# Altium schematic symbol library NAVIGATION.SCHLIB: 51 symbols
Pins are listed as number, name and electrical type; pins without a type are passive.

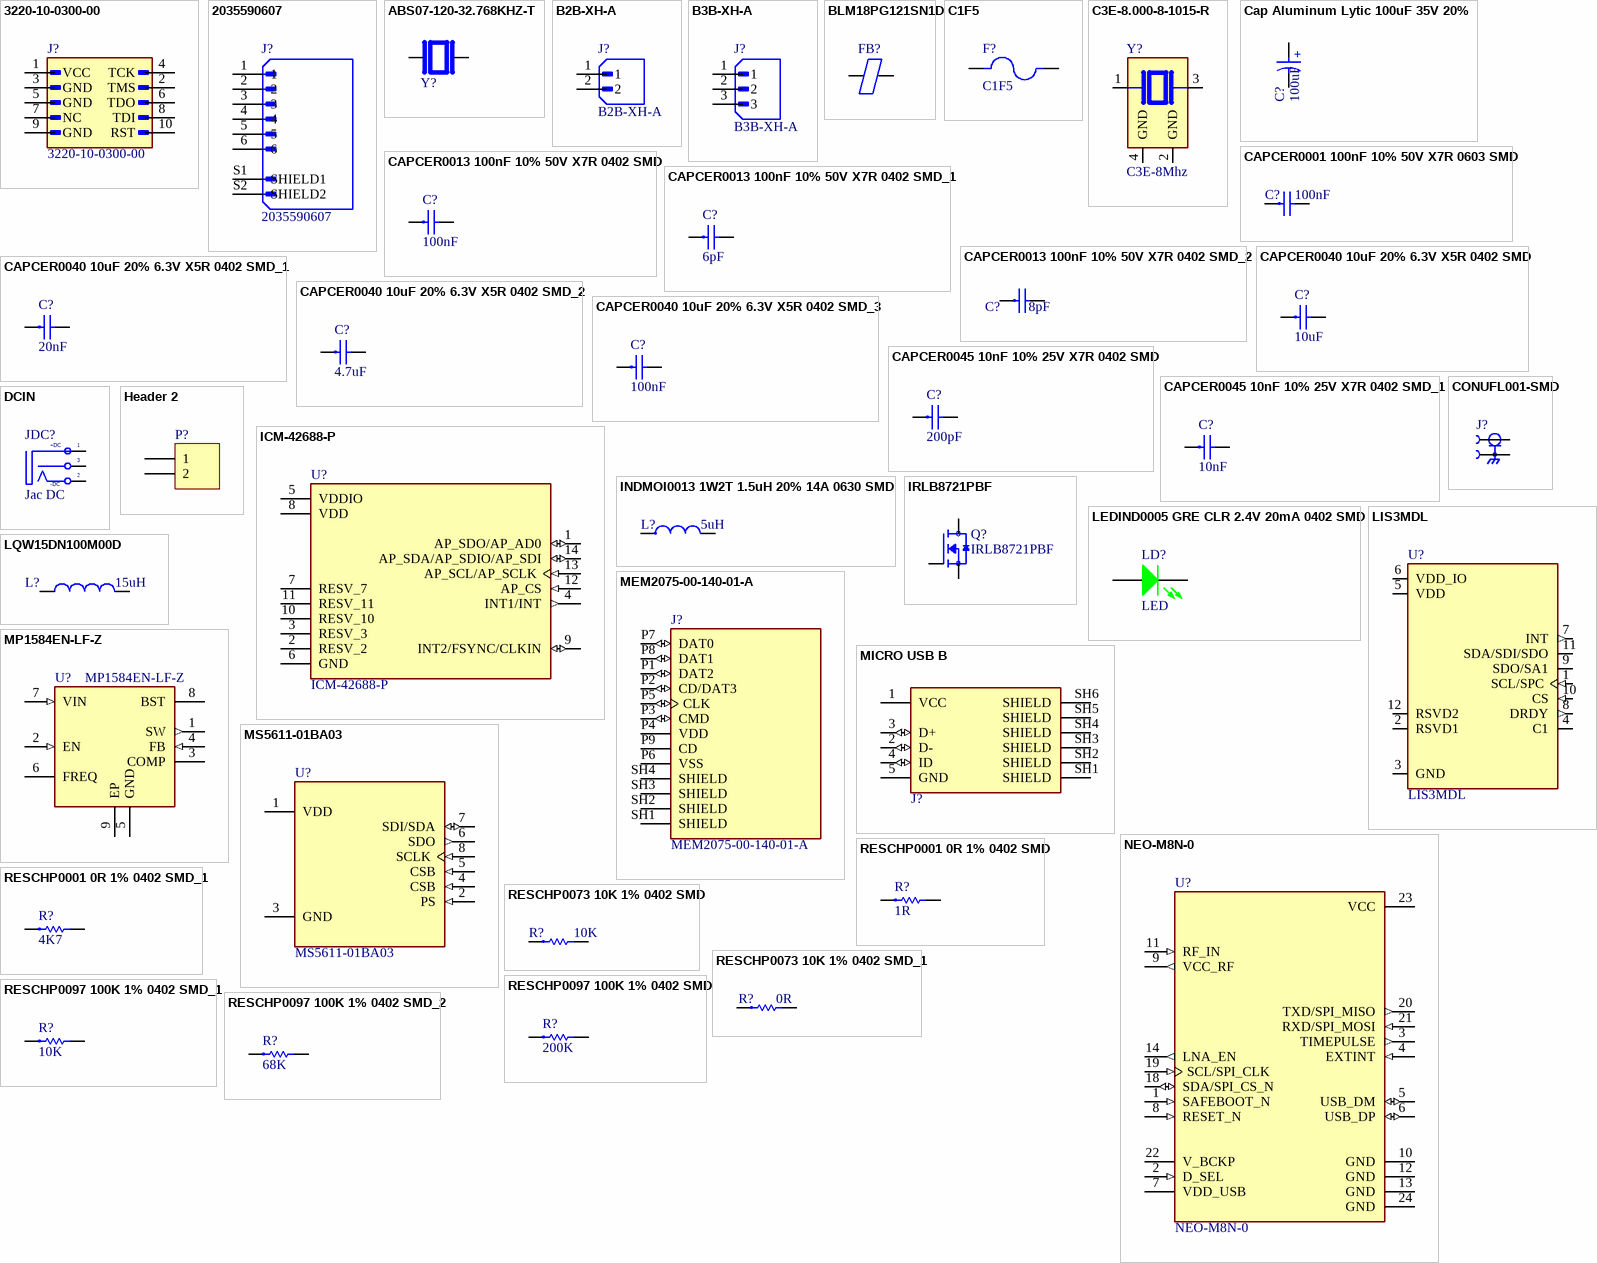
[diagram p0: symbols 3220-10-0300-00 to RESCHP0097 100K 1% 0402 SMD_2]

## 3220-10-0300-00
designator J?
Connector Header Surface Mount 10 position 0.050 (1.27mm); MF: CNC Tech; SnapEDA_Link: https://www.snapeda.com/parts/3220-10-0300-00/CNC+Tech/view-part/?ref=snap; Package: None; Value: *; MP: 3220-10-0300-00; Check_prices: https://www.snapeda.com/parts/3220-10-0300-00/CNC+Tech/view-part/?ref=eda
footprint CNC_3220-10-0300-00
pins: 1 VCC, 2 TMS, 3 GND, 4 TCK, 5 GND, 6 TDO, 7 NC, 8 TDI, 9 GND, 10 RST

## 2035590607
designator J?
Package: None; Availability: Unavailable; Price: None; MP: 2035590607; Value: *
footprint MOLEX_2035590607
pins: 1, 2, 3, 4, 5, 6, S1 SHIELD1, S2 SHIELD2

## ABS07-120-32.768KHZ-T
designator Y?  (value not drawn)
32.768 kHz Â±20ppm Crystal 6pF 55 kOhms 2-SMD, No Lead; MF: Abracon; Package: SMD-2 Abracon LLC; Purchase-URL: https://pricing.snapeda.com/search/part/ABS07-120-32.768KHZ-T/?ref=eda; Value: *; Digi-Key_Part_Number: 535-11937-2-ND; SnapEDA_Link: https://www.snapeda.com/parts/ABS07-120-32.768KHZ-T/Abracon+LLC/view-part/?ref=snap; MP: ABS07-120-32.768KHZ-T; Check_prices: https://www.snapeda.com/parts/ABS07-120-32.768KHZ-T/Abracon+LLC/view-part/?ref=eda
footprint XTAL_ABS07-120-32.768KHZ-T
pins: 1, 2

## B2B-XH-A
designator J?
MF: {'manufacturer': u'JST Sales America Inc.'}; Package: None; Price: None; Value: *; MP: B2B-XH-A; Availability: Unavailable
footprint JST_B2B-XH-A
pins: 1, 2

## B3B-XH-A
designator J?
Connector Header Through Hole 3 position 0.098 (2.50mm); MF: JST Sales; SnapEDA_Link: https://www.snapeda.com/parts/B3B-XH-A/JST+Sales+America+Inc./view-part/?ref=snap; Package: None; Value: *; MP: B3B-XH-A; Check_prices: https://www.snapeda.com/parts/B3B-XH-A/JST+Sales+America+Inc./view-part/?ref=eda
footprint JST_B3B-XH-A
pins: 1, 2, 3

## BLM18PG121SN1D
designator FB?, comment 100MHz 2A 50mOhm  (value not drawn)
Ferrite Beads Multi-Layer 120Ohm 25% 100MHz 2A 50mOhm DCR 0603 Paper T/R; Manufacturer: Murata; Manufacturer Part Number: BLM18PG121SN1D; Material: Steel,Ferrite; Impedance: 120R; Number of Lines: 1; DC Resistance (DCR): 50mR; Number of Circuits: 1NUMBER; Shielding: 202Shielding; Supplier 1: Mouser; RoHS: Yes; Category: Ferrite Beads and Chips; Stock 1: 377848; Pricing 1: 1=0.1, 10=0.059, 50=0.047, 100=0.042, 1000=0.029, 10000=0.018 (USD); Case/Package: 0603; Number of Pins: 2; Core Material: Ferrite; Case Code (Metric): 1608; Case Code (Imperial): 0603; Min Operating Temperature: -55°C; Max Operating Temperature: 125°C; Tolerance: 25%; Package Quantity: 1; Max Current Rating: 2A; Packaging: Tape and Reel; Current Rating: 2A; Max DC Current: 2A; Termination: SMD/SMT; Test Frequency: 100MHz; DC Current: 2A; Frequency: 100MHz; Series: BLM18P; DC Resistance-Max: 50mR; RMS Current (Irms): 2A; Series Resistance: 50mR; Length: 1.6mm; Width: 0.8mm; Height: 0.8mm; Depth: 0.8mm; Radiation Hardening: No; Reach SVHC Compliant: No; Lead Free: Lead Free; RoHS Compliant: Yes; ComponentLink1URL: https://datasheet.ciiva.com/5709/1740433-5709171.pdf?src-supplier=Farnell; ComponentLink1Description: https://datasheet.ciiva.com/5709/1740433-5709171.pdf?src-supplier=Farnell; ComponentLink2URL: https://datasheet.ciiva.com/19454/1845013-19454715.pdf?src-supplier=Jameco; ComponentLink2Description: https://datasheet.ciiva.com/19454/1845013-19454715.pdf?src-supplier=Jameco; ComponentLink3URL: https://datasheet.ciiva.com/11799/0900766b81275ca5-11799546.pdf?src-supplier=Rs; ComponentLink3Description: https://datasheet.ciiva.com/11799/0900766b81275ca5-11799546.pdf?src-supplier=Rs; ComponentLink4URL: https://datasheet.ciiva.com/3854/5emiapbde-1-3854039.pdf?src-supplier=Arrow+Electronics; ComponentLink4Description: https://datasheet.ciiva.com/3854/5emiapbde-1-3854039.pdf?src-supplier=Arrow+Electronics; ComponentLink5URL: https://datasheet.ciiva.com/29347/442365-da-01-en-chip-drossel-0603-120r-2000ma-1-6x0-8mm-29347911.pdf?src-supplier=Conrad; ComponentLink5Description: https://datasheet.ciiva.com/29347/442365-da-01-en-chip-drossel-0603-120r-2000ma-1-6x0-8mm-29347911.pdf?src-supplier=Conrad; ComponentLink6URL: https://datasheet.ciiva.com/8021/1740433-8021493.pdf?src-supplier=Element14; ComponentLink6Description: https://datasheet.ciiva.com/8021/1740433-8021493.pdf?src-supplier=Element14; ComponentLink7URL: https://datasheet.ciiva.com/8021/1740433-8021494.pdf?src-supplier=Element14; ComponentLink7Description: https://datasheet.ciiva.com/8021/1740433-8021494.pdf?src-supplier=Element14; ComponentLink8URL: https://datasheet.ciiva.com/14122/blm-series-eng-tds-14122905.pdf?src-supplier=Distrelec; ComponentLink8Description: https://datasheet.ciiva.com/14122/blm-series-eng-tds-14122905.pdf?src-supplier=Distrelec; ComponentLink9URL: https://datasheet.ciiva.com/6212/l0110s0100blm18p-6212502.pdf?src-supplier=Digikey; ComponentLink9Description: https://datasheet.ciiva.com/6212/l0110s0100blm18p-6212502.pdf?src-supplier=Digikey; ComponentLink10URL: https://datasheet.ciiva.com/6212/l0110s0100blm18p-6212504.pdf?src-supplier=Digikey; ComponentLink10Description: https://datasheet.ciiva.com/6212/l0110s0100blm18p-6212504.pdf?src-supplier=Digikey; ComponentLink11URL: https://datasheet.ciiva.com/3081/l0110s0100blm18p-3081632.pdf?src-supplier=Avnet; ComponentLink11Description: https://datasheet.ciiva.com/3081/l0110s0100blm18p-3081632.pdf?src-supplier=Avnet; ComponentLink12URL: https://datasheet.ciiva.com/41449/001172297-da-01-en-drossel-0603-120r-1-6x0-8mm-4000st-41449659.pdf?src-supplier=Conrad; ComponentLink12Description: https://datasheet.ciiva.com/41449/001172297-da-01-en-drossel-0603-120r-1-6x0-8mm-4000st-41449659.pdf?src-supplier=Conrad; Supplier Part Number 1: 81-BLM18PG121SN1D
footprint FB 0603
pins: 1, 2

## C1F5
designator F?
Fuse Chip Fast Acting 5A 125V SMD Solder Pad 1206 3.2 X 1.58 X 0.63mm; Manufacturer: Bel TRP; Voltage Rating (DC): 63V; DC Cold Resistance: 20mR; Fuse Type: Board Mount (Cartridge Style Excluded); Supplier 1: Newark; Manufacturer Part Number: C1F5; RoHS: Yes; Category: Uncategorized; Mount: Surface Mount; Case/Package: 1206; Number of Pins: 2; Contact Plating: Tin; Case Code (Metric): 3216; Case Code (Imperial): 1206; Min Operating Temperature: -55°C; Max Operating Temperature: 125°C; Packaging: Cut Tape; Voltage Rating: 125V; Series: C1F; Voltage Rating (AC): 125V; ComponentLink1URL: http://www.mouser.com/ds/2/643/C1F-594910.pdf?src-supplier=Mouser; ComponentLink1Description: http://www.mouser.com/ds/2/643/C1F-594910.pdf?src-supplier=Mouser; ComponentLink2URL: http://belfuse.com/pdfs/C1F.pdf?src-supplier=Avnet; ComponentLink2Description: http://belfuse.com/pdfs/C1F.pdf?src-supplier=Avnet; ComponentLink3URL: https://belfuse.com/resources/datasheets/circuitprotection/ds-cp-c1f-series.pdf?src-supplier=Digikey; ComponentLink3Description: https://belfuse.com/resources/datasheets/circuitprotection/ds-cp-c1f-series.pdf?src-supplier=Digikey; Supplier Part Number 1: 48AC8480
footprint FUSE C1F5
pins: 1, 2

## C3E-8.000-8-1015-R
designator Y?, comment C3E-8Mhz
MP: C3E-8.000-8-1015-R; Package: None; Price: None; Value: *; Availability: Unavailable
footprint XTAL_C3E-8.000-8-1015-R
pins: 1, 2 GND (power), 3 2, 4 GND (power)

## Cap Aluminum Lytic 100uF 35V 20%
designator C?, comment 100uF
Cap Aluminum Lytic 100uF 35V 20% (6.3 X 7.7mm) SMD 300mA 2000h 105C T/R; Manufacturer: Wurth Electronics; Manufacturer Part Number: 865080545012; Dissipation Factor: 14%; ESR (Equivalent Series Resistance): 321.392mR; Insulation Resistance: 1MR; Leakage Current: 35uA; Supplier 1: Digikey; RoHS: Yes; Category: Aluminum Electrolytic Capacitors; Stock 1: 37792; Pricing 1: 1=0.31, 50=0.2674, 100=0.2322, 250=0.207, 900=0.1809, 1800=0.1719 (USD); Ripple Current: 300mA; Voltage Rating (DC): 35V; Length: 7.7mm; Width: 6.6mm; ComponentLink1URL: http://www.farnell.com/datasheets/1880164.pdf?src-supplier=Farnell; ComponentLink1Description: http://www.farnell.com/datasheets/1880164.pdf?src-supplier=Farnell; ComponentLink2URL: http://www.farnell.com/datasheets/1880164.pdf?src-supplier=Newark; ComponentLink2Description: http://www.farnell.com/datasheets/1880164.pdf?src-supplier=Newark; ComponentLink3URL: https://katalog.we-online.de/pbs/datasheet/865080545012.pdf?src-supplier=Digikey; ComponentLink3Description: https://katalog.we-online.de/pbs/datasheet/865080545012.pdf?src-supplier=Digikey; ComponentLink4URL: http://www.farnell.com/datasheets/1880164.pdf?src-supplier=Element14; ComponentLink4Description: http://www.farnell.com/datasheets/1880164.pdf?src-supplier=Element14; Supplier Part Number 1: 732-8511-1-ND
footprint Cap Aluminum Lytic 100uF 35V 20%
pins: 1 P, 2 N
text: +

## CAPCER0001 100nF 10% 50V X7R 0603 SMD
designator C?, comment 100nF
CAP CER 100nF 10% 50V X7R 0603 SMD; LINE: SMT; TYPE: EP; UNIT: PCS; TMG PN: CAPCER0001; TMG CODE: None; CERTIFICATION: NA; CLASS: B; MOUNT: SMD; ComponentLink1Description: Datasheet; ComponentLink1URL: https://datasheet.lcsc.com/lcsc/1811021431_Samsung-Electro-Mechanics-CL10B104KB8NNNC_C1591.pdf; Footprint: 0603
footprint CAP-CER0603-0.8H (CAP CER 0603 0.8 Height SMD Density Level B)
pins: 1, 2

## CAPCER0013 100nF 10% 50V X7R 0402 SMD
designator C?, comment 100nF
CAP CER 100nF 10% 50V X7R 0402 SMD; LINE: SMT; TYPE: EP; UNIT: PCS; TMG PN: CAPCER0013; TMG CODE: None; CERTIFICATION: NA; CLASS: B; MOUNT: SMD; ComponentLink1Description: Datasheet; ComponentLink1URL: https://datasheet.lcsc.com/lcsc/1811021431_Samsung-Electro-Mechanics-CL10B104KB8NNNC_C1591.pdf; Footprint: 0402
footprint CAP-CER0402-0.5H (CAP CER 0402 0.5 Height SMD Density Level B)
pins: 1, 2

## CAPCER0013 100nF 10% 50V X7R 0402 SMD_1
designator C?, comment 6pF
CAP CER 100nF 10% 50V X7R 0402 SMD; LINE: SMT; TYPE: EP; UNIT: PCS; TMG PN: CAPCER0013; TMG CODE: None; CERTIFICATION: NA; CLASS: B; MOUNT: SMD; ComponentLink1Description: Datasheet; ComponentLink1URL: https://datasheet.lcsc.com/lcsc/1811021431_Samsung-Electro-Mechanics-CL10B104KB8NNNC_C1591.pdf; Footprint: 0402
footprint CAP-CER0402-0.5H (CAP CER 0402 0.5 Height SMD Density Level B)
pins: 1, 2

## CAPCER0013 100nF 10% 50V X7R 0402 SMD_2
designator C?, comment 8pF
CAP CER 100nF 10% 50V X7R 0402 SMD; LINE: SMT; TYPE: EP; UNIT: PCS; TMG PN: CAPCER0013; TMG CODE: None; CERTIFICATION: NA; CLASS: B; MOUNT: SMD; ComponentLink1Description: Datasheet; ComponentLink1URL: https://datasheet.lcsc.com/lcsc/1811021431_Samsung-Electro-Mechanics-CL10B104KB8NNNC_C1591.pdf; Footprint: 0402
footprint CAP-CER0402-0.5H (CAP CER 0402 0.5 Height SMD Density Level B)
pins: 1, 2

## CAPCER0040 10uF 20% 6.3V X5R 0402 SMD
designator C?, comment 10uF
CAP CER 10uF 20% 6.3V X5R 0402 SMD; LINE: SMT; TYPE: EP; UNIT: PCS; TMG PN: CAPCER0013; TMG CODE: None; CERTIFICATION: NA; CLASS: B; MOUNT: SMD; ComponentLink1Description: Datasheet; ComponentLink1URL: https://datasheet.lcsc.com/lcsc/2304140030_YAGEO-CC0402MRX5R5BB106_C105884.pdf; Footprint: 0402
footprint CAP-CER0402-20mil (CAP CER 0402 0.5 Height SMD Density Level B)
pins: 1, 2

## CAPCER0040 10uF 20% 6.3V X5R 0402 SMD_1
designator C?, comment 20nF
CAP CER 10uF 20% 6.3V X5R 0402 SMD; LINE: SMT; TYPE: EP; UNIT: PCS; TMG PN: CAPCER0013; TMG CODE: None; CERTIFICATION: NA; CLASS: B; MOUNT: SMD; ComponentLink1Description: Datasheet; ComponentLink1URL: https://datasheet.lcsc.com/lcsc/2304140030_YAGEO-CC0402MRX5R5BB106_C105884.pdf; Footprint: 0402
footprint CAP-CER0402-20mil (CAP CER 0402 0.5 Height SMD Density Level B)
pins: 1, 2

## CAPCER0040 10uF 20% 6.3V X5R 0402 SMD_2
designator C?, comment 4.7uF
CAP CER 10uF 20% 6.3V X5R 0402 SMD; LINE: SMT; TYPE: EP; UNIT: PCS; TMG PN: CAPCER0013; TMG CODE: None; CERTIFICATION: NA; CLASS: B; MOUNT: SMD; ComponentLink1Description: Datasheet; ComponentLink1URL: https://datasheet.lcsc.com/lcsc/2304140030_YAGEO-CC0402MRX5R5BB106_C105884.pdf; Footprint: 0402
footprint CAP-CER0402-20mil (CAP CER 0402 0.5 Height SMD Density Level B)
pins: 1, 2

## CAPCER0040 10uF 20% 6.3V X5R 0402 SMD_3
designator C?, comment 100nF
CAP CER 10uF 20% 6.3V X5R 0402 SMD; LINE: SMT; TYPE: EP; UNIT: PCS; TMG PN: CAPCER0013; TMG CODE: None; CERTIFICATION: NA; CLASS: B; MOUNT: SMD; ComponentLink1Description: Datasheet; ComponentLink1URL: https://datasheet.lcsc.com/lcsc/2304140030_YAGEO-CC0402MRX5R5BB106_C105884.pdf; Footprint: 0402
footprint CAP-CER0402-20mil (CAP CER 0402 0.5 Height SMD Density Level B)
pins: 1, 2

## CAPCER0045 10nF 10% 25V X7R 0402 SMD
designator C?, comment 200pF
CAP CER 10nF 10% 25V X7R 0402 SMD; LINE: SMT; TYPE: EP; UNIT: PCS; TMG CODE: None; CERTIFICATION: NA; CLASS: B; MOUNT: SMD; ComponentLink1Description: Datasheet; ComponentLink1URL: https://datasheet.lcsc.com/lcsc/1811141228_YAGEO-CC0402KRX7R8BB103_C327025.pdf
footprint CAP-CER0402-0.5H (CAP CER 0402 0.5 Height SMD Density Level B)
pins: 1, 2

## CAPCER0045 10nF 10% 25V X7R 0402 SMD_1
designator C?, comment 10nF
CAP CER 10nF 10% 25V X7R 0402 SMD; LINE: SMT; TYPE: EP; UNIT: PCS; TMG CODE: None; CERTIFICATION: NA; CLASS: B; MOUNT: SMD; ComponentLink1Description: Datasheet; ComponentLink1URL: https://datasheet.lcsc.com/lcsc/1811141228_YAGEO-CC0402KRX7R8BB103_C327025.pdf
footprint CAP-CER0402-0.5H (CAP CER 0402 0.5 Height SMD Density Level B)
pins: 1, 2

## CONUFL001-SMD
designator J?  (value not drawn)
MF: Linx; Availability: In Stock; Price: None; SnapEDA_Link: https://www.snapeda.com/parts/CONUFL001-SMD/Linx/view-part/5842340/?ref=snap; Value: *; Check_prices: https://www.snapeda.com/parts/CONUFL001-SMD/Linx/view-part/5842340/?ref=eda; MP: CONUFL001-SMD; Package: None
footprint LINX_CONUFL001-SMD
pins: 1, 2, 3 2

## DCIN
designator JDC?, comment Jac DC
Jac DC input; Value: Jac DC
footprint DC0 (Jac DC input)
footprint DC1 (WR-DC_DC Power Jack_Right Angled_THT Center Pin ?0.65_Plug ID ?0.75_Plug OD ?2.35_with Peg)
footprint DC2 (WR-DC_DC Power Jack_Vertical_THT WR-DC_DC Power Jack_Vertical_THT)
footprint DC3 (WR-DC_DC Power Jack_Vertical_THT Center Pin ?2.5_Plug ID ?2.55_Plug OD ?5.5)
footprint DC4 (WR-DC_DC Power Jack_Right Angled_THT Center Pin ?1.0_Plug ID ?1.05_Plug OD ?3.5_with Peg)
footprint DC5 (WR-DC_DC Power Jack_Right Angled_THT Center Pin ?1.3_Plug ID ?1.35_Plug OD ?3.5_with Peg)
pins: 1 T "Tip", 2 TN "Tip Normal (Break Contact)", 3 S (power) "Sleeve (Ground)"
text: +DC; -DC

## Header 2
designator P?  (value not drawn)
Header, 2-Pin; LatestRevisionDate: 17-Jul-2002; LatestRevisionNote: Re-released for DXP Platform.; Publisher: Altium Limited
footprint HDR1X2 (Connector; Header; 2 Position)
signal-integrity model Connector
pins: 1, 2

## ICM-42688-P
designator U?
Accelerometer, Gyroscope, 6 Axis Sensor Output; Package: None; MP: ICM-42688-P; Value: *; Availability: Unavailable; Price: None
footprint PQFN50P300X250X97-14N
pins: 1 AP_SDO/AP_AD0 (io), 2 RESV_2, 3 RESV_3, 4 INT1/INT (out), 5 VDDIO (power), 6 GND (power), 7 RESV_7, 8 VDD (power), 9 INT2/FSYNC/CLKIN (io), 10 RESV_10, 11 RESV_11, 12 AP_CS (in), 13 AP_SCL/AP_SCLK (in), 14 AP_SDA/AP_SDIO/AP_SDI (io)

## INDMOI0013 1W2T 1.5uH 20% 14A 0630 SMD
designator L?, comment 5uH
IND MOI 1W2T 1.5uH 20% 14A 0630 SMD; LINE: SMT; TYPE: EP; UNIT: PCS; TMG CODE: None; CERTIFICATION: NA; CLASS: B; MOUNT: SMD; ComponentLink1Description: Datasheet; ComponentLink1URL: https://datasheet.lcsc.com/lcsc/2210101130_SHOU-HAN-CYA0630-1-5UH_C5189745.pdf
footprint IND-06030-1uH (IND CHP 0630 SMD)
pins: 1, 2

## IRLB8721PBF
designator Q?
IRLB8721PBF N-channel MOSFET Transistor, 62 A, 30 V, 3-Pin TO-220AB | Infineon IRLB8721PBF; MF: Infineon Technologies; SnapEDA_Link: https://www.snapeda.com/parts/IRLB8721PBF/Infineon/view-part/?ref=snap; Package: TO-220-3 Infineon; Value: *; MP: IRLB8721PBF; Check_prices: https://www.snapeda.com/parts/IRLB8721PBF/Infineon/view-part/?ref=eda
footprint TO254P1067X483X2057-3
pins: 1 G, 2 D, 3 S

## LEDIND0005 GRE CLR 2.4V 20mA 0402 SMD
designator LD?, comment LED
LED IND GRE CLR 2.4V 20mA 0402 SMD; LINE: SMT; TYPE: EP; UNIT: PCS; TMG CODE: None; CERTIFICATION: NA; CLASS: B; MOUNT: SMD; ComponentLink1Description: Datasheet; ComponentLink1URL: https://datasheet.lcsc.com/lcsc/2102221739_Yongyu-Photoelectric-SZYY0402YG_C434449.pdf
footprint LED-IND0402-GRE-0.4H (LED INDICATION SMD-0402 Height 0.4mm RED)
pins: 1 A, 2 K

## LIS3MDL
designator U?
Magnetoresistive Sensor X, Y, Z Axis 12-LGA (2x2); MF: STMicroelectronics; SnapEDA_Link: https://www.snapeda.com/parts/LIS3MDL/STMicroelectronics/view-part/?ref=snap; Package: VFLGA-12 STMicroelectronics; Value: *; MP: LIS3MDL; Check_prices: https://www.snapeda.com/parts/LIS3MDL/STMicroelectronics/view-part/?ref=eda
footprint XDCR_LIS3MDL
pins: 1 SCL/SPC (in), 2 RSVD1, 3 GND (power), 4 C1, 5 VDD (power), 6 VDD_IO (power), 7 INT (out), 8 DRDY (out), 9 SDO/SA1 (io), 10 CS (in), 11 SDA/SDI/SDO (io), 12 RSVD2

## LQW15DN100M00D
designator L?, comment 15uH
MF: {'manufacturer': u'Murata Electronics'}; MP: LQW15DN100M00D; Package: None; Price: None; Value: *; Availability: Unavailable
footprint INDC1106X70N
pins: 1, 2

## MEM2075-00-140-01-A
designator J?
9 (8 + 1) Position Card Connector microSD Surface Mount, Right Angle Gold; MF: Global Connector Technology; SnapEDA_Link: https://www.snapeda.com/parts/MEM2075-00-140-01-A/Global+Connector+Technology/view-part/?ref=snap; Package: None; Value: *; MP: MEM2075-00-140-01-A; Check_prices: https://www.snapeda.com/parts/MEM2075-00-140-01-A/Global+Connector+Technology/view-part/?ref=eda
footprint GCT_MEM2075-00-140-01-A
pins: P1 DAT2 (io), P2 CD/DAT3 (io), P3 CMD (io), P4 VDD (power), P5 CLK (io), P6 VSS (power), P7 DAT0 (io), P8 DAT1 (io), P9 CD, SH1 SHIELD (power), SH2 SHIELD (power), SH3 SHIELD (power), SH4 SHIELD (power)

## MICRO USB B
designator J?, comment MICRO B  (value not drawn)
footprint MICRO USB B
pins: 1 VCC (power), 2 D- (io), 3 D+ (io), 4 ID (io), 5 GND (power), SH1 SHIELD, SH2 SHIELD, SH3 SHIELD, SH4 SHIELD, SH5 SHIELD, SH6 SHIELD

## MP1584EN-LF-Z
designator U?
Buck Switching Regulator IC Positive Adjustable 0.8V 1 Output 3A 8-SOIC (0.154, 3.90mm Width) Exposed Pad; MF: Monolithic Power Systems; MP: MP1584ENLFZ; SnapEDA_Link: https://www.snapeda.com/parts/MP1584ENLFZ/Monolithic+Power+Systems/view-part/?ref=snap; Package: SOIC-8 Monolithic Power Systems; Value: *; Check_prices: https://www.snapeda.com/parts/MP1584ENLFZ/Monolithic+Power+Systems/view-part/?ref=eda
footprint SOIC127P600X170-9N
pins: 1 SW (out), 2 EN (in), 3 COMP, 4 FB (in), 5 GND (power), 6 FREQ, 7 VIN (in), 8 BST, 9 EP (power)

## MS5611-01BA03
designator U?
Pressure Sensor 0.15PSI ~ 17.4PSI (1kPa ~ 120kPa) Absolute - 24 b 8-SMD; MF: TE Connectivity; Package: SMD-8 Measurement Specialties; Price: None; Value: *; SnapEDA_Link: https://www.snapeda.com/parts/MS5611-01BA03/TE+Connectivity+ALCOSWITCH+Switches/view-part/?ref=snap; MP: MS5611-01BA03; Availability: Not in stock; Check_prices: https://www.snapeda.com/parts/MS5611-01BA03/TE+Connectivity+ALCOSWITCH+Switches/view-part/?ref=eda
footprint SON125P500X300X100-8N
pins: 1 VDD (power), 2 PS (in), 3 GND (power), 4 CSB (in), 5 CSB (in), 6 SDO (out), 7 SDI/SDA (io), 8 SCLK (in)

## NEO-M8N-0
designator U?
series RF Receiver BeiDou, Galileo, GLONASS, GNSS, GPS 1.575GHz -167dBm - - -; MF: U-Blox America; SnapEDA_Link: https://www.snapeda.com/parts/NEO-M8N-0/u-blox/view-part/?ref=snap; Package: SMD-24 U-Blox America Inc.; Value: *; MP: NEO-M8N-0; Check_prices: https://www.snapeda.com/parts/NEO-M8N-0/u-blox/view-part/?ref=eda
footprint XCVR_NEO-M8N-0
pins: 1 SAFEBOOT_N (in), 2 D_SEL (in), 3 TIMEPULSE (out), 4 EXTINT (in), 5 USB_DM (io), 6 USB_DP (io), 7 VDD_USB (power), 8 RESET_N (in), 9 VCC_RF (out), 10 GND (power), 11 RF_IN (in), 12 GND (power), 13 GND (power), 14 LNA_EN (out), 18 SDA/SPI_CS_N (io), 19 SCL/SPI_CLK (in), 20 TXD/SPI_MISO (out), 21 RXD/SPI_MOSI (in), 22 V_BCKP (power), 23 VCC (power), 24 GND (power)

## RESCHP0001 0R 1% 0402 SMD
designator R?, comment 1R
RES CHP 0R 1% 1/16W 0402 SMD; MFR PN: NA; LINE: SMT; UNIT: PCS; TMG PN: RESCHP0001; TMG CODE: None; CLASS: B; MOUNT: SMD; TYPE: EP; CERTIFICATION: NA; ComponentLink1Description: Datasheet; ComponentLink1URL: https://datasheet.lcsc.com/lcsc/2207281800_Sunway-SC0402F0000I2ANRH_C3152056.pdf; Footprint: 0402
footprint RES-CHP0402-0.35H (RES CHP 1/16W 0402 SMD)
pins: 1, 2

## RESCHP0001 0R 1% 0402 SMD_1
designator R?, comment 4K7
RES CHP 0R 1% 1/16W 0402 SMD; MFR PN: NA; LINE: SMT; UNIT: PCS; TMG PN: RESCHP0001; TMG CODE: None; CLASS: B; MOUNT: SMD; TYPE: EP; CERTIFICATION: NA; ComponentLink1Description: Datasheet; ComponentLink1URL: https://datasheet.lcsc.com/lcsc/2207281800_Sunway-SC0402F0000I2ANRH_C3152056.pdf; Footprint: 0402
footprint RES-CHP0402-0.35H (RES CHP 1/16W 0402 SMD)
pins: 1, 2

## RESCHP0073 10K 1% 0402 SMD
designator R?, comment 10K
RES CHP 10K 1% 1/16W 0402 SMD; LINE: SMT; UNIT: PCS; TMG PN: RESCHP0073; TMG CODE: None; CERTIFICATION: NA; CLASS: B; MOUNT: SMD; TYPE: EP; ComponentLink1Description: Datasheet; ComponentLink1URL: https://datasheet.lcsc.com/lcsc/2304140030_YAGEO-AC0402FR-0710KL_C144807.pdf; Footprint: 0402
footprint RES-CHP0402-0.35H (RES CHP 1/16W 0402 SMD)
pins: 1, 2

## RESCHP0073 10K 1% 0402 SMD_1
designator R?, comment 0R
RES CHP 10K 1% 1/16W 0402 SMD; LINE: SMT; UNIT: PCS; TMG PN: RESCHP0073; TMG CODE: None; CERTIFICATION: NA; CLASS: B; MOUNT: SMD; TYPE: EP; ComponentLink1Description: Datasheet; ComponentLink1URL: https://datasheet.lcsc.com/lcsc/2304140030_YAGEO-AC0402FR-0710KL_C144807.pdf; Footprint: 0402
footprint RES-CHP0402-0.35H (RES CHP 1/16W 0402 SMD)
pins: 1, 2

## RESCHP0097 100K 1% 0402 SMD
designator R?, comment 200K
RES CHP 100K 1% 1/16W 0402 SMD; LINE: SMT; UNIT: PCS; TMG CODE: None; CERTIFICATION: NA; CLASS: B; MOUNT: SMD; TYPE: EP; ComponentLink1Description: Datasheet; ComponentLink1URL: https://datasheet.lcsc.com/lcsc/2304140030_YAGEO-AC0402FR-0710KL_C144807.pdf
footprint RES-CHP0402-0.35H (RES CHP 1/16W 0402 SMD)
pins: 1, 2

## RESCHP0097 100K 1% 0402 SMD_1
designator R?, comment 10K
RES CHP 100K 1% 1/16W 0402 SMD; LINE: SMT; UNIT: PCS; TMG CODE: None; CERTIFICATION: NA; CLASS: B; MOUNT: SMD; TYPE: EP; ComponentLink1Description: Datasheet; ComponentLink1URL: https://datasheet.lcsc.com/lcsc/2304140030_YAGEO-AC0402FR-0710KL_C144807.pdf
footprint RES-CHP0402-0.35H (RES CHP 1/16W 0402 SMD)
pins: 1, 2

## RESCHP0097 100K 1% 0402 SMD_2
designator R?, comment 68K
RES CHP 100K 1% 1/16W 0402 SMD; LINE: SMT; UNIT: PCS; TMG CODE: None; CERTIFICATION: NA; CLASS: B; MOUNT: SMD; TYPE: EP; ComponentLink1Description: Datasheet; ComponentLink1URL: https://datasheet.lcsc.com/lcsc/2304140030_YAGEO-AC0402FR-0710KL_C144807.pdf
footprint RES-CHP0402-0.35H (RES CHP 1/16W 0402 SMD)
pins: 1, 2

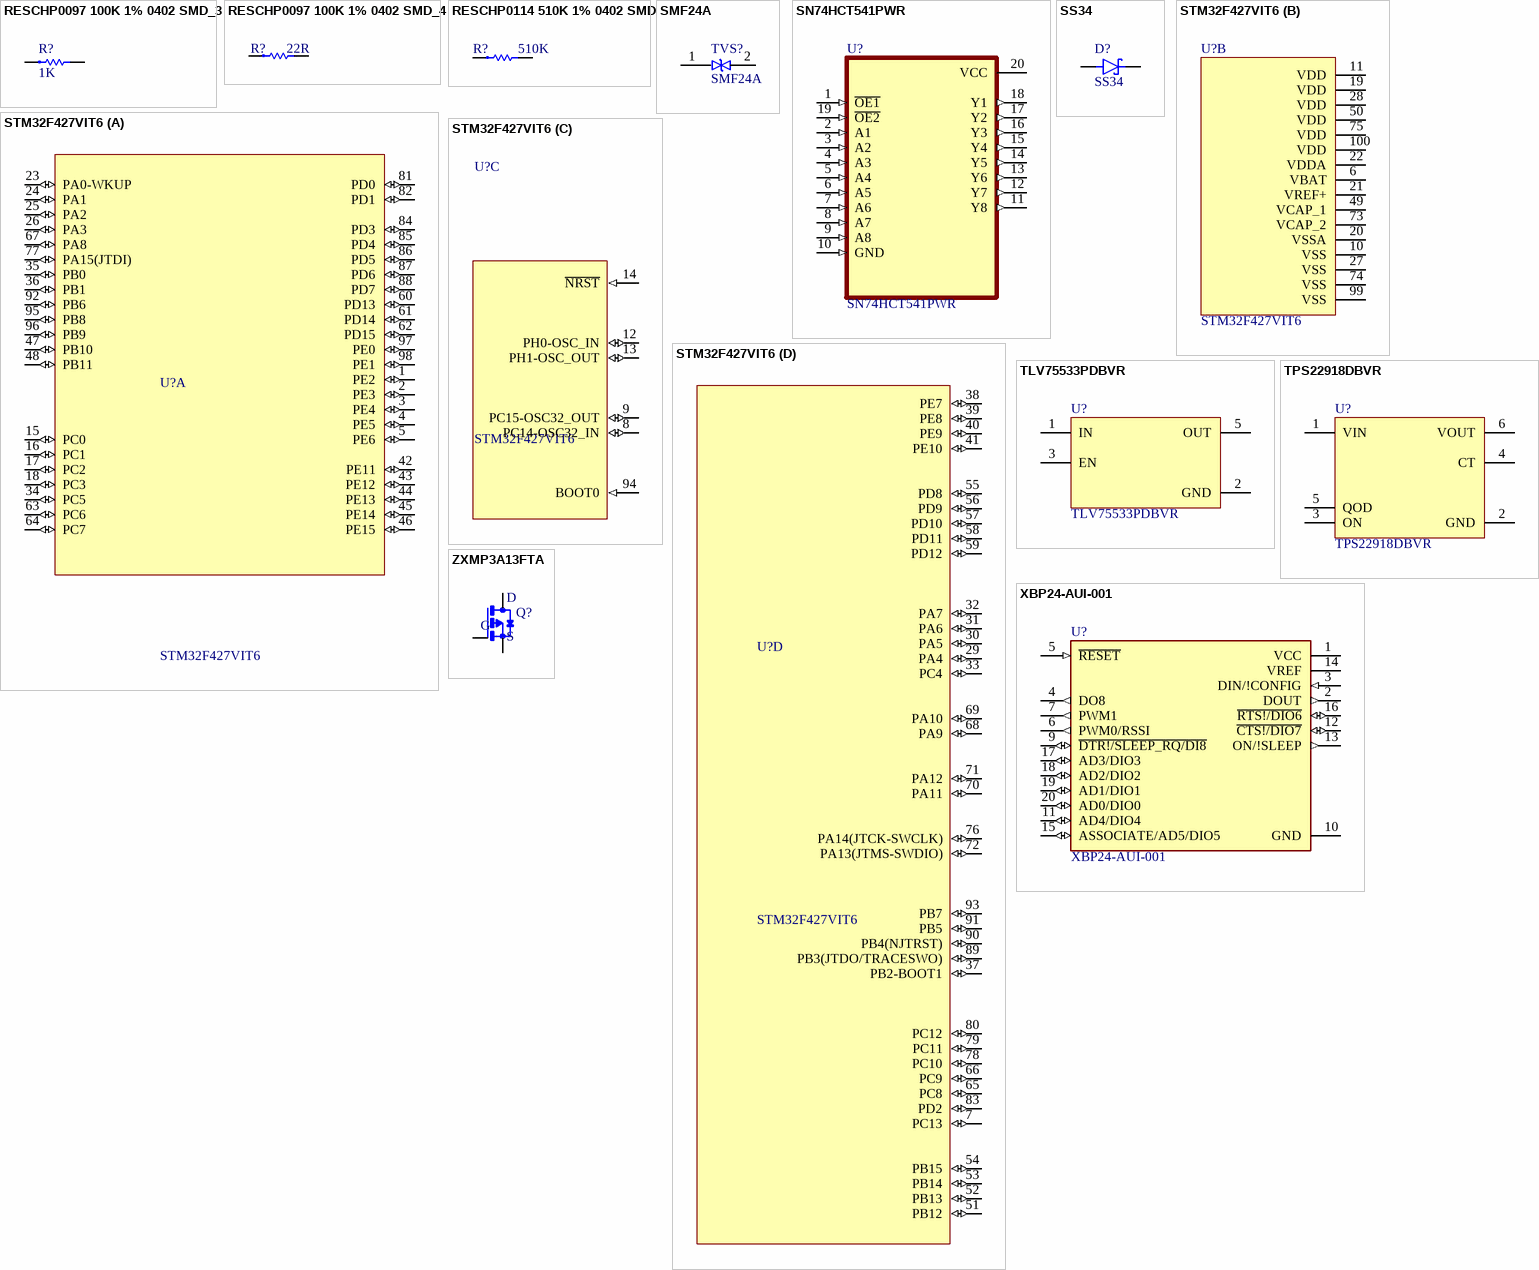
[diagram p1: symbols RESCHP0097 100K 1% 0402 SMD_3 to ZXMP3A13FTA]

## RESCHP0097 100K 1% 0402 SMD_3
designator R?, comment 1K
RES CHP 100K 1% 1/16W 0402 SMD; LINE: SMT; UNIT: PCS; TMG CODE: None; CERTIFICATION: NA; CLASS: B; MOUNT: SMD; TYPE: EP; ComponentLink1Description: Datasheet; ComponentLink1URL: https://datasheet.lcsc.com/lcsc/2304140030_YAGEO-AC0402FR-0710KL_C144807.pdf
footprint RES-CHP0402-0.35H (RES CHP 1/16W 0402 SMD)
pins: 1, 2

## RESCHP0097 100K 1% 0402 SMD_4
designator R?, comment 22R
RES CHP 100K 1% 1/16W 0402 SMD; LINE: SMT; UNIT: PCS; TMG CODE: None; CERTIFICATION: NA; CLASS: B; MOUNT: SMD; TYPE: EP; ComponentLink1Description: Datasheet; ComponentLink1URL: https://datasheet.lcsc.com/lcsc/2304140030_YAGEO-AC0402FR-0710KL_C144807.pdf
footprint RES-CHP0402-0.35H (RES CHP 1/16W 0402 SMD)
pins: 1, 2

## RESCHP0114 510K 1% 0402 SMD
designator R?, comment 510K
RES CHP 510K 1% 1/16W 0402 SMD; LINE: SMT; UNIT: PCS; TMG CODE: None; CERTIFICATION: NA; CLASS: B; MOUNT: SMD; TYPE: EP; ComponentLink1Description: Datasheet; ComponentLink1URL: https://datasheet.lcsc.com/lcsc/2304140030_YAGEO-RC0402FR-07510KL_C137961.pdf
footprint RES-CHP0402-0.35H (RES CHP 1/16W 0402 SMD)
pins: 1, 2

## SMF24A
designator TVS?
TVS DIODE 24VWM 38.9VC SOD123F; Manufacturer: Littelfuse; Supplier 1: Digikey; Manufacturer Part Number: SMF24A; RoHS: Yes; Category: TVS Diodes; Stock 1: 51545; Pricing 1: 1=0.28, 10=0.225, 100=0.114, 500=0.111, 1000=0.108 (USD); ComponentLink1URL: https://datasheet.ciiva.com/6578/littelfuse-tvs-diode-smf-datasheet-pdf-6578345.pdf?src-supplier=Digikey; ComponentLink1Description: https://datasheet.ciiva.com/6578/littelfuse-tvs-diode-smf-datasheet-pdf-6578345.pdf?src-supplier=Digikey; ComponentLink2URL: https://datasheet.ciiva.com/6578/littelfuse-tvs-diode-smf-datasheet-pdf-6578346.pdf?src-supplier=Digikey; ComponentLink2Description: https://datasheet.ciiva.com/6578/littelfuse-tvs-diode-smf-datasheet-pdf-6578346.pdf?src-supplier=Digikey; ComponentLink3URL: https://datasheet.ciiva.com/6578/littelfuse-tvs-diode-smf-datasheet-pdf-6578347.pdf?src-supplier=Digikey; ComponentLink3Description: https://datasheet.ciiva.com/6578/littelfuse-tvs-diode-smf-datasheet-pdf-6578347.pdf?src-supplier=Digikey; Supplier Part Number 1: F5823CT-ND
footprint TVS24V
pins: 1, 2

## SN74HCT541PWR
designator U?
Package: None; Price: None; Value: *; MP: SN74HCT541PWR; Availability: Unavailable
footprint SOP65P640X120-20N
pins: 1 ~{OE1} (in), 2 A1 (in), 3 A2 (in), 4 A3 (in), 5 A4 (in), 6 A5 (in), 7 A6 (in), 8 A7 (in), 9 A8 (in), 10 GND (in), 11 Y8 (out), 12 Y7 (out), 13 Y6 (out), 14 Y5 (out), 15 Y4 (out), 16 Y3 (out), 17 Y2 (out), 18 Y1 (out), 19 ~{OE2} (in), 20 VCC (power)

## SS34
designator D?
3A, 40V, Schottky Rectifier; MF: Taiwan Semiconductor; SnapEDA_Link: https://www.snapeda.com/parts/SS34/Taiwan+Semiconductor/view-part/?ref=snap; Package: DO-214AB-2 Taiwan Semiconductor; Value: *; MP: SS34; Check_prices: https://www.snapeda.com/parts/SS34/Taiwan+Semiconductor/view-part/?ref=eda
footprint DIO_SS34
pins: A, C K

## STM32F427VIT6
designator U?
ARMÂ® CortexÂ®-M4 STM32F4 Microcontroller IC 32-Bit Single-Core 180MHz 2MB (2M x 8) FLASH 100-LQFP (14x14); MF: STMicroelectronics; SnapEDA_Link: https://www.snapeda.com/parts/STM32F427VIT6/STMicroelectronics/view-part/?ref=snap; Package: LQFP-100 STMicroelectronics; Value: *; MP: STM32F427VIT6; Check_prices: https://www.snapeda.com/parts/STM32F427VIT6/STMicroelectronics/view-part/?ref=eda
footprint QFP50P1600X1600X160-100N
part A pins: 1 PE2 (io), 2 PE3 (io), 3 PE4 (io), 4 PE5 (io), 5 PE6 (io), 15 PC0 (io), 16 PC1 (io), 17 PC2 (io), 18 PC3 (io), 23 PA0-WKUP (io), 24 PA1 (io), 25 PA2 (io), 26 PA3 (io), 34 PC5 (io), 35 PB0 (io), 36 PB1 (io), 42 PE11 (io), 43 PE12 (io), 44 PE13 (io), 45 PE14 (io), 46 PE15 (io), 47 PB10 (io), 48 PB11 (io), 60 PD13 (io), 61 PD14 (io), 62 PD15 (io), 63 PC6 (io), 64 PC7 (io), 67 PA8 (io), 77 PA15(JTDI) (io), 81 PD0 (io), 82 PD1 (io), 84 PD3 (io), 85 PD4 (io), 86 PD5 (io), 87 PD6 (io), 88 PD7 (io), 92 PB6 (io), 95 PB8 (io), 96 PB9 (io), 97 PE0 (io), 98 PE1 (io)
part B pins: 6 VBAT (power), 10 VSS (power), 11 VDD (power), 19 VDD (power), 20 VSSA (power), 21 VREF+ (power), 22 VDDA (power), 27 VSS (power), 28 VDD (power), 49 VCAP_1, 50 VDD (power), 73 VCAP_2, 74 VSS (power), 75 VDD (power), 99 VSS (power), 100 VDD (power)
part C pins: 8 PC14-OSC32_IN (io), 9 PC15-OSC32_OUT (io), 12 PH0-OSC_IN (io), 13 PH1-OSC_OUT (io), 14 ~{NRST} (in), 94 BOOT0 (in)
part D pins: 7 PC13 (io), 29 PA4 (io), 30 PA5 (io), 31 PA6 (io), 32 PA7 (io), 33 PC4 (io), 37 PB2-BOOT1 (io), 38 PE7 (io), 39 PE8 (io), 40 PE9 (io), 41 PE10 (io), 51 PB12 (io), 52 PB13 (io), 53 PB14 (io), 54 PB15 (io), 55 PD8 (io), 56 PD9 (io), 57 PD10 (io), 58 PD11 (io), 59 PD12 (io), 65 PC8 (io), 66 PC9 (io), 68 PA9 (io), 69 PA10 (io), 70 PA11 (io), 71 PA12 (io), 72 PA13(JTMS-SWDIO) (io), 76 PA14(JTCK-SWCLK) (io), 78 PC10 (io), 79 PC11 (io), 80 PC12 (io), 83 PD2 (io), 89 PB3(JTDO/TRACESWO) (io), 90 PB4(NJTRST) (io), 91 PB5 (io), 93 PB7 (io)

## TLV75533PDBVR
designator U?
500-mA High-PSRR Low-IQ-Tief-Dropout-Spannungsregler mitablem; MF: Texas Instruments; SnapEDA_Link: https://www.snapeda.com/parts/TLV75533PDBVR/Texas+Instruments/view-part/?ref=snap; Package: SOT-23-5 Texas Instruments; Value: *; MP: TLV75533PDBVR; Check_prices: https://www.snapeda.com/parts/TLV75533PDBVR/Texas+Instruments/view-part/?ref=eda
footprint SOT95P280X145-5N
pins: 1 IN, 2 GND, 3 EN, 5 OUT

## TPS22918DBVR
designator U?
5.5-V, 2-A, 52-mÎ© load switch with adj. rise time and adj. output discharge; MF: Texas Instruments; SnapEDA_Link: https://www.snapeda.com/parts/TPS22918DBVR/Texas+Instruments/view-part/?ref=snap; Package: SOT-23-6 Texas Instruments; Value: *; MP: TPS22918DBVR; Check_prices: https://www.snapeda.com/parts/TPS22918DBVR/Texas+Instruments/view-part/?ref=eda
footprint SOT95P280X145-6N
pins: 1 VIN, 2 GND, 3 ON, 4 CT, 5 QOD, 6 VOUT

## XBP24-AUI-001
designator U?
Xbee-Pro 802.15.4, 63mw, Wire Antenna, 250000 Bps; Higher Tran; Package: None; Price: None; Value: *; MP: XBP24-AUI-001; Availability: Unavailable
footprint XBP24-AUI-001
pins: 1 VCC (power), 2 DOUT (out), 3 DIN/!CONFIG (in), 4 DO8 (out), 5 ~{RESET} (in), 6 PWM0/RSSI (out), 7 PWM1 (out), 9 ~{DTR!/SLEEP_RQ/DI8} (io), 10 GND (power), 11 AD4/DIO4 (io), 12 ~{CTS!/DIO7} (io), 13 ON/!SLEEP (out), 14 VREF (power), 15 ASSOCIATE/AD5/DIO5 (io), 16 ~{RTS!/DIO6} (io), 17 AD3/DIO3 (io), 18 AD2/DIO2 (io), 19 AD1/DIO1 (io), 20 AD0/DIO0 (io)

## ZXMP3A13FTA
designator Q?, comment Pfet  (value not drawn)
Mosfet, P Channel, 30V, -1.6A, SOT-23; Manufacturer: Diodes Zetex; Manufacturer Part Number: ZXMP3A13FTA; Supplier 1: Newark; RoHS: Yes; Category: LDO; Stock 1: 1778; Pricing 1: 5=0.512, 10=0.392, 25=0.372, 50=0.352, 100=0.332, 250=0.282 (USD); ComponentLink1URL: https://datasheet.ciiva.com/8024/44102-8024177.pdf?src-supplier=Element14; ComponentLink1Description: https://datasheet.ciiva.com/8024/44102-8024177.pdf?src-supplier=Element14; ComponentLink2URL: https://datasheet.ciiva.com/15137/getdatasheetpartid-95752-15137792.pdf?src-supplier=Verical; ComponentLink2Description: https://datasheet.ciiva.com/15137/getdatasheetpartid-95752-15137792.pdf?src-supplier=Verical; ComponentLink3URL: https://datasheet.ciiva.com/17027/0900766b80d2efae-17027671.pdf?src-supplier=Allied+Electronics; ComponentLink3Description: https://datasheet.ciiva.com/17027/0900766b80d2efae-17027671.pdf?src-supplier=Allied+Electronics; ComponentLink4URL: https://datasheet.ciiva.com/4442/zxmp3a13f-4442916.pdf?src-supplier=Mouser; ComponentLink4Description: https://datasheet.ciiva.com/4442/zxmp3a13f-4442916.pdf?src-supplier=Mouser; ComponentLink5URL: https://datasheet.ciiva.com/935/zxmp3a13f-935128.pdf?src-supplier=Digikey; ComponentLink5Description: https://datasheet.ciiva.com/935/zxmp3a13f-935128.pdf?src-supplier=Digikey; ComponentLink6URL: https://datasheet.ciiva.com/935/zxmp3a13f-935129.pdf?src-supplier=Digikey; ComponentLink6Description: https://datasheet.ciiva.com/935/zxmp3a13f-935129.pdf?src-supplier=Digikey; ComponentLink7URL: https://datasheet.ciiva.com/935/zxmp3a13f-935130.pdf?src-supplier=Digikey; ComponentLink7Description: https://datasheet.ciiva.com/935/zxmp3a13f-935130.pdf?src-supplier=Digikey; Supplier Part Number 1: 38K9599
footprint ZXMP3A13FTA
pins: 1 G, 2 S, 3 D